# EAGLE library part RJHS-1PORT-2LEDS (library stutz-eagle)
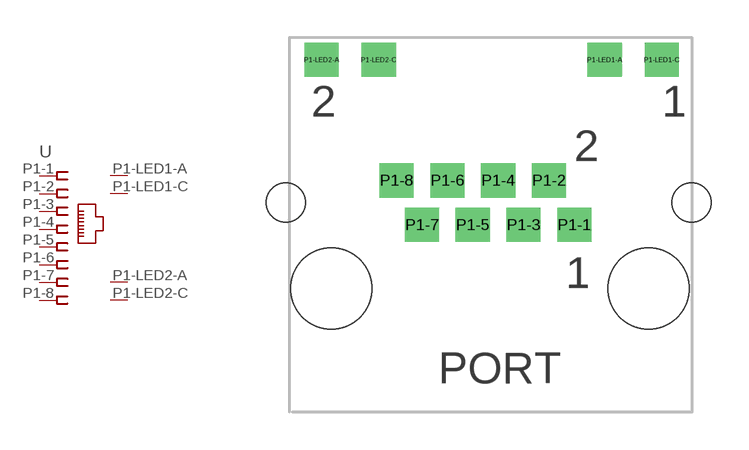
[diagram p6: symbol with the pads of RJHS-1PORT-2LEDS; footprint RJHS-1PORT-2LEDS]

Designator prefix -

## RJHS-1PORT-2LEDS  [RJHS-1PORT-2LEDS]
P1-1  P1-1  pas
P1-2  P1-2  pas
P1-3  P1-3  pas
P1-4  P1-4  pas
P1-5  P1-5  pas
P1-6  P1-6  pas
P1-7  P1-7  pas
P1-8  P1-8  pas
P1-LED1-A  P1-LED1-A  pas
P1-LED1-C  P1-LED1-C  pas
P1-LED2-A  P1-LED2-A  pas
P1-LED2-C  P1-LED2-C  pas

## Footprint RJHS-1PORT-2LEDS (pad centres in mm)
drill 0.864 square: P1-1 3.364,-0.154; P1-2 2.348,1.624; P1-3 1.332,-0.154; P1-4 0.316,1.624; P1-5 -0.7,-0.154; P1-6 -1.716,1.624; P1-7 -2.732,-0.154; P1-8 -3.748,1.624; P1-LED1-A 4.58,6.45; P1-LED1-C 6.866,6.45; P1-LED2-A -6.75,6.45; P1-LED2-C -4.464,6.45
hole 3.251 at -6.37,-2.694
hole 3.251 at 6.331,-2.694
hole 1.575 at -8.174,0.735
hole 1.575 at 8.05,0.735